# EAGLE library part RESISTOR_ARRAY_4 (library FaBo-Resistors)
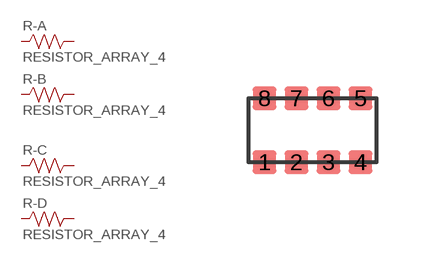
[diagram p0: symbol with the pads of EXBV8V; footprint EXBV8V]

Designator prefix R; gates -A=RESISTOR -B=RESISTOR -C=RESISTOR -D=RESISTOR

## RESISTOR_ARRAY_4  [EXBV8V]
1  -A:1
2  -B:1
3  -C:1
4  -D:1
5  -D:2
6  -C:2
7  -B:2
8  -A:2

## Footprint EXBV8V (pad centres in mm)
smd 0.6 x 0.6: 1 -1.2,-0.8; 2 -0.4,-0.8; 3 0.4,-0.8; 4 1.2,-0.8; 5 1.2,0.8; 6 0.4,0.8; 7 -0.4,0.8; 8 -1.2,0.8